# EAGLE library part MT46H32M16LFBF-5:B (library kwoo)
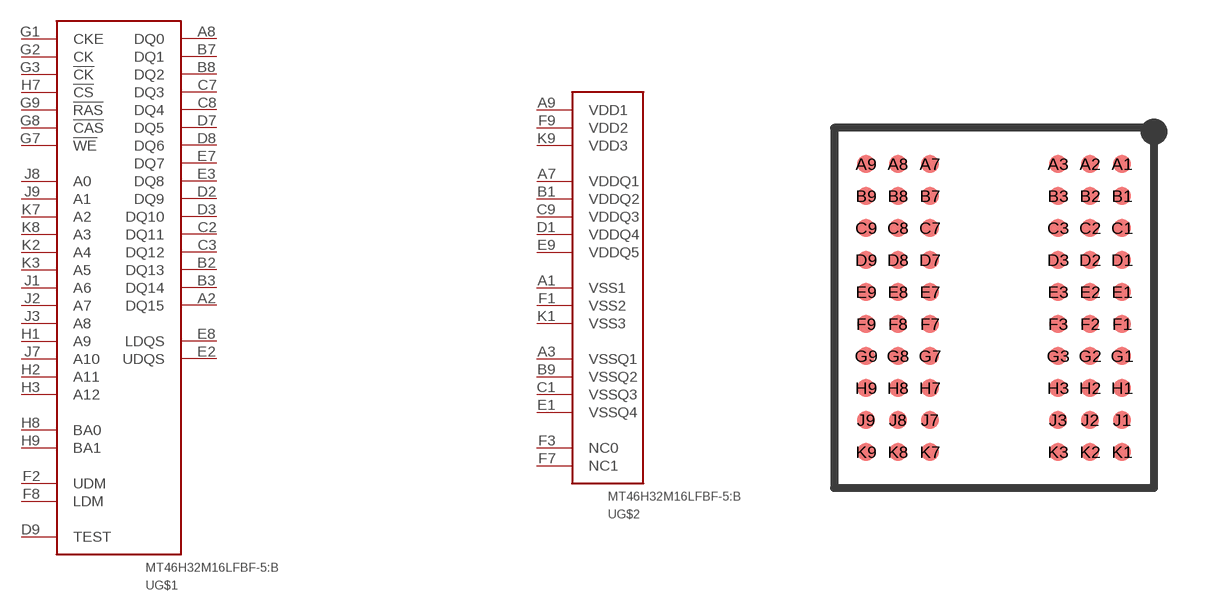
[diagram p4: symbol with the pads of 60-VFBGA; footprint 60-VFBGA]

Designator prefix -; gates G$1=MT46H32M16LF G$2=MT46H32M16LF-P

## MT46H32M16LFBF-5:B  [60-VFBGA]
A1  G$2:VSS1
A2  G$1:DQ15
A3  G$2:VSSQ1
A7  G$2:VDDQ1
A8  G$1:DQ0
A9  G$2:VDD1
B1  G$2:VDDQ2
B2  G$1:DQ13
B3  G$1:DQ14
B7  G$1:DQ1
B8  G$1:DQ2
B9  G$2:VSSQ2
C1  G$2:VSSQ3
C2  G$1:DQ11
C3  G$1:DQ12
C7  G$1:DQ3
C8  G$1:DQ4
C9  G$2:VDDQ3
D1  G$2:VDDQ4
D2  G$1:DQ9
D3  G$1:DQ10
D7  G$1:DQ5
D8  G$1:DQ6
D9  G$1:TEST
E1  G$2:VSSQ4
E2  G$1:UDQS
E3  G$1:DQ8
E7  G$1:DQ7
E8  G$1:LDQS
E9  G$2:VDDQ5
F1  G$2:VSS2
F2  G$1:UDM
F3  G$2:NC0
F7  G$2:NC1
F8  G$1:LDM
F9  G$2:VDD2
G1  G$1:CKE
G2  G$1:CK
G3  G$1:!CK
G7  G$1:!WE
G8  G$1:!CAS
G9  G$1:!RAS
H1  G$1:A9
H2  G$1:A11
H3  G$1:A12
H7  G$1:!CS
H8  G$1:BA0
H9  G$1:BA1
J1  G$1:A6
J2  G$1:A7
J3  G$1:A8
J7  G$1:A10
J8  G$1:A0
J9  G$1:A1
K1  G$2:VSS3
K2  G$1:A4
K3  G$1:A5
K7  G$1:A2
K8  G$1:A3
K9  G$2:VDD3

## Footprint 60-VFBGA (pad centres in mm)
smd 0.45 x 0.45: A1 3.2,3.6; A2 2.4,3.6; A3 1.6,3.6; A7 -1.6,3.6; A8 -2.4,3.6; A9 -3.2,3.6; B1 3.2,2.8; B2 2.4,2.8; B3 1.6,2.8; B7 -1.6,2.8; B8 -2.4,2.8; B9 -3.2,2.8; C1 3.2,2; C2 2.4,2; C3 1.6,2; C7 -1.6,2; C8 -2.4,2; C9 -3.2,2; D1 3.2,1.2; D2 2.4,1.2; D3 1.6,1.2; D7 -1.6,1.2; D8 -2.4,1.2; D9 -3.2,1.2; E1 3.2,0.4; E2 2.4,0.4; E3 1.6,0.4; E7 -1.6,0.4; E8 -2.4,0.4; E9 -3.2,0.4; F1 3.2,-0.4; F2 2.4,-0.4; F3 1.6,-0.4; F7 -1.6,-0.4; F8 -2.4,-0.4; F9 -3.2,-0.4; G1 3.2,-1.2; G2 2.4,-1.2; G3 1.6,-1.2; G7 -1.6,-1.2; G8 -2.4,-1.2; G9 -3.2,-1.2; H1 3.2,-2; H2 2.4,-2; H3 1.6,-2; H7 -1.6,-2; H8 -2.4,-2; H9 -3.2,-2; J1 3.2,-2.8; J2 2.4,-2.8; J3 1.6,-2.8; J7 -1.6,-2.8; J8 -2.4,-2.8; J9 -3.2,-2.8; K1 3.2,-3.6; K2 2.4,-3.6; K3 1.6,-3.6; K7 -1.6,-3.6; K8 -2.4,-3.6; K9 -3.2,-3.6